# Altium footprint library 贴片厚膜电阻.PcbLib: 14 footprints
Each footprint in its own frame and in the unit in brackets; x right, y up, seen from the top. Pads: shape width x height; smd on the part's side, far side on the other; paste and mask are expansions set on the pad; w line width, h text height; cw(c..) or ccw(c..) is an arc to the next point about the centre after c.
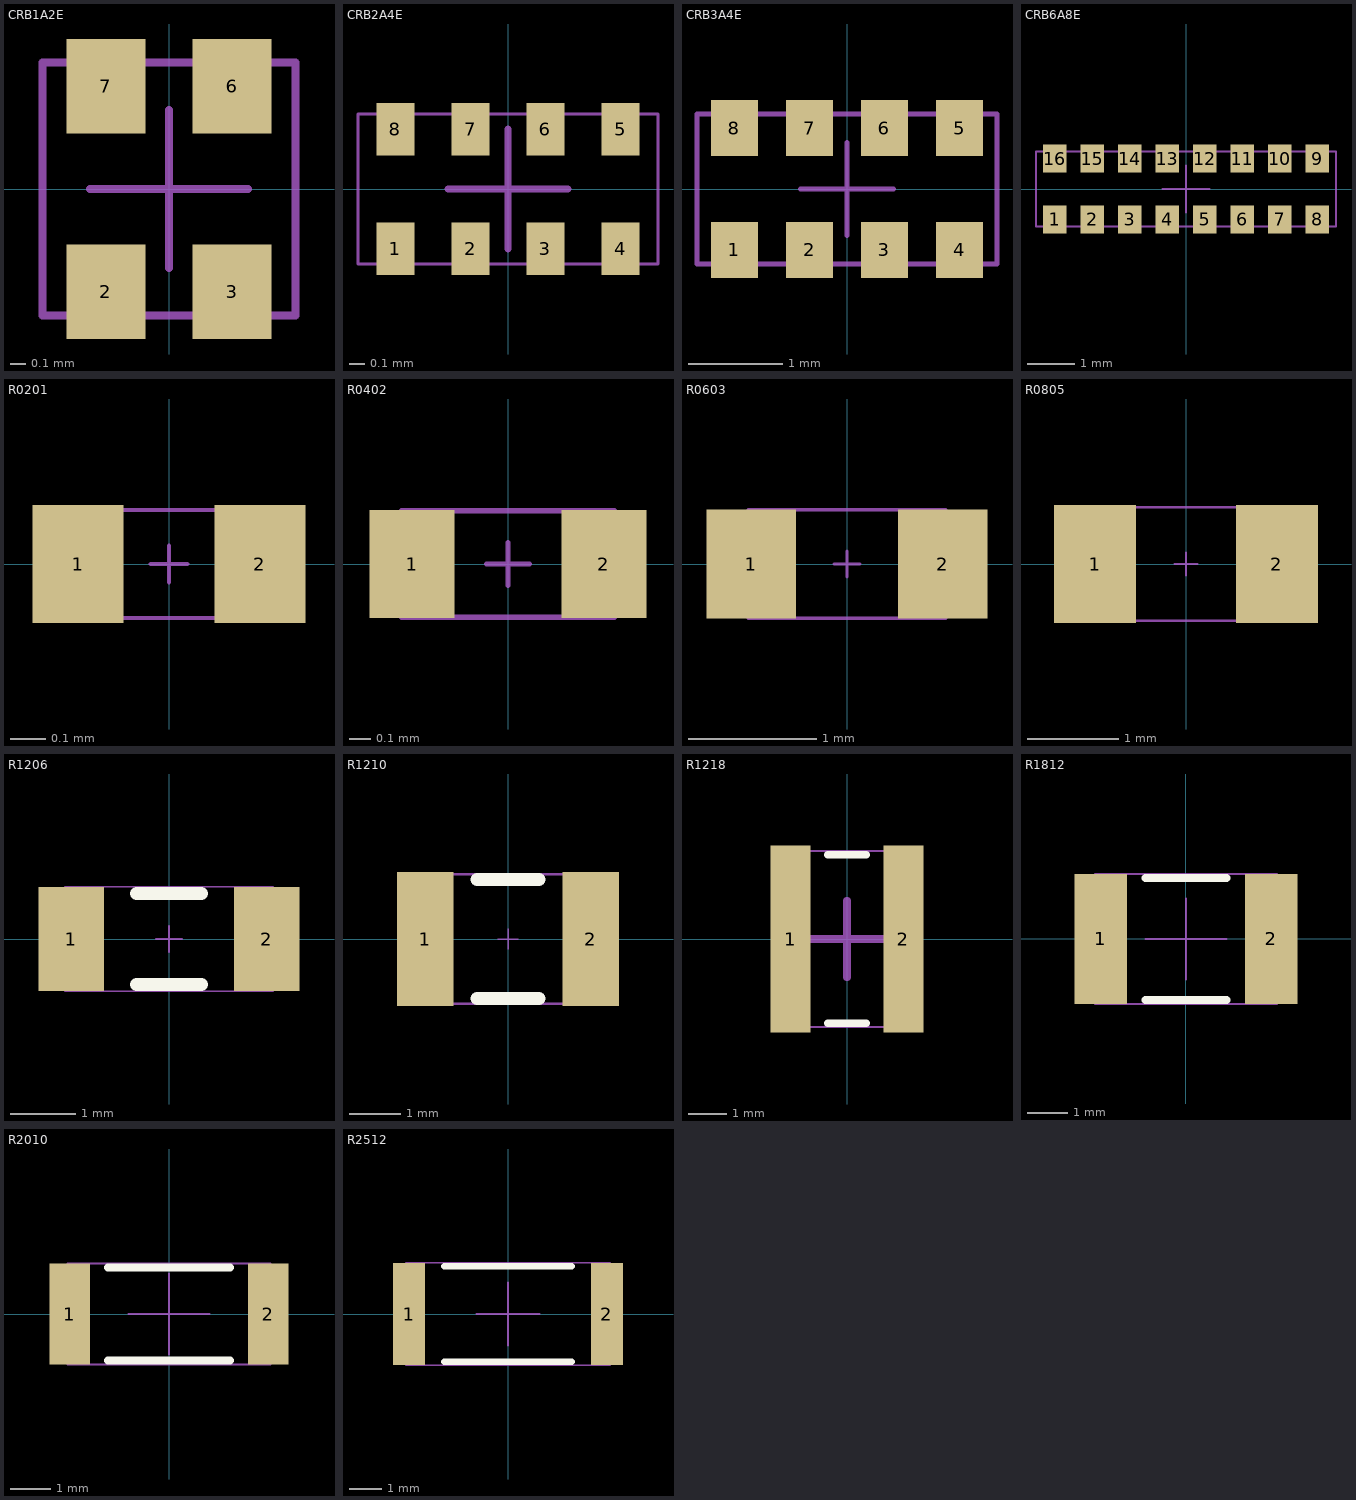
[diagram p0: the footprints below, top view; thin cyan lines are the x and y axes]

## CRB1A2E [mm] "AVX 2位贴片排阻，1.6X1.6X0.6"
height 0.6
pads (4):
  rect 0.5x0.6 smd: 2(-0.4,-0.65) 3(0.4,-0.65) 6(0.4,0.65) 7(-0.4,0.65)
Mechanical 13:
  lines w0.05: -0.8,-0.8 -0.8,0.8 0.8,0.8 0.8,-0.8 -0.8,-0.8
Mechanical 15:
  lines w0.05: -0.5,0 0.5,0 ; 0,-0.5 0,0.5
3D body: height 0.58, standoff -0.02, extent -0.8,-0.8 0.8,0.8

## CRB2A4E [mm] "AVX 4位贴片排阻，2.0x1.0x0.4"
height 0.4
pads (8):
  rect 0.254x0.35 smd: 1(-0.75,-0.4) 2(-0.25,-0.4) 3(0.25,-0.4) 4(0.75,-0.4) 5(0.75,0.4) 6(0.25,0.4) 7(-0.25,0.4) 8(-0.75,0.4)
Mechanical 13:
  lines w0.02: -1,-0.5 -1,0.5 1,0.5 1,-0.5 -1,-0.5
Mechanical 15:
  lines w0.05: -0.4,0 0.4,0 ; 0,-0.4 0,0.4
3D body: height 0.39, standoff -0.01, extent -1,-0.5 1,0.5

## CRB3A4E [mm] "AVX 4位贴片排阻，3.2x1.6x0.6"
height 0.6
pads (8):
  rect 0.5x0.6 smd: 1(-1.2,-0.65) 2(-0.4,-0.65) 3(0.4,-0.65) 4(1.2,-0.65) 5(1.2,0.65) 6(0.4,0.65) 7(-0.4,0.65) 8(-1.2,0.65)
Mechanical 13:
  lines w0.05: -1.6,-0.8 -1.6,0.8 1.6,0.8 1.6,-0.8 -1.6,-0.8
Mechanical 15:
  lines w0.05: -0.5,0 0.5,0 ; 0,-0.5 0,0.5
3D body: height 0.58, standoff -0.02, extent -1.6,-0.8 1.6,0.8

## CRB6A8E [mm] "AVX 8位贴片排阻，6.4x1.6x0.6"
height 0.6
pads (16):
  rect 0.5x0.6 smd: 1(-2.8,-0.65) 2(-2,-0.65) 3(-1.2,-0.65) 4(-0.4,-0.65) 5(0.4,-0.65) 6(1.2,-0.65) 7(2,-0.65) 8(2.8,-0.65) 9(2.8,0.65) 10(2,0.65) 11(1.2,0.65) 12(0.4,0.65) 13(-0.4,0.65) 14(-1.2,0.65) 15(-2,0.65) 16(-2.8,0.65)
Mechanical 13:
  lines w0.05: -3.2,-0.8 -3.2,0.8 3.2,0.8 3.2,-0.8 -3.2,-0.8
Mechanical 15:
  lines w0.05: -0.5,0 0.5,0 ; 0,-0.5 0,0.5
3D body: height 0.58, standoff -0.02, extent -3.2,-0.8 3.2,0.8

## R0201 [mil] "1/20W 15V -55 to +125°C （AVX电阻）"
height 9
pads (2):
  rect 10x13 smd: 1(-10,0) 2(10,0)
Mechanical 13:
  lines w0.39: -11.82,-5.91 11.8,-5.91 11.8,5.91 -11.82,5.91 -11.82,-5.91
Mechanical 15:
  lines w0.3: -6,-6 -6,6 ; 6,-6 6,6 ; -12,-6 12,-6 12,6 -12,6 -12,-6
  lines w0.49: -2,0 0,0 ; 0,-2 0,0 ; 0,2 0,0 ; 2,0 0,0
3D body: height 8.86, standoff -0.2, extent -11.82,-5.91 11.8,5.91

## R0402 [mm] "1/16W 50V -55 to +125°C （AVX电阻）"
height 0.356
pads (2):
  rect 0.4x0.508 smd: 1(-0.45,0) 2(0.45,0)
Mechanical 13:
  lines w0.02: -0.5,-0.25 0.5,-0.25 0.5,0.25 -0.5,0.25 -0.5,-0.25
Mechanical 15:
  lines w0.025: -0.305,-0.25 -0.305,0.25 ; -0.1,0 0.1,0 ; 0,-0.1 0,0.1 ; 0.305,-0.25 0.305,0.25 ; -0.5,-0.25 0.5,-0.25 0.5,0.25 -0.5,0.25 -0.5,-0.25
3D body: height 0.35, standoff 0, extent -0.5,-0.25 0.5,0.25

## R0603 [mm] "1/10W 50V -55 to +125°C （AVX电阻）"
height 0.508
pads (2):
  rect 0.7x0.85 smd: 1(-0.75,0) 2(0.75,0)
Mechanical 13:
  lines w0.02: -0.775,-0.425 -0.775,0.425 0.775,0.425 0.775,-0.425 -0.775,-0.425
Mechanical 15:
  lines w0.025: -0.584,-0.425 -0.584,0.425 ; -0.1,0 0.1,0 ; 0,-0.1 0,0.1 ; 0.559,-0.425 0.559,0.425 ; -0.775,-0.425 -0.775,0.425 0.775,0.425 0.775,-0.425 -0.775,-0.425
3D body: height 0.46, standoff 0, extent -0.775,-0.425 0.775,0.425

## R0805 [mm] "1/8W 100V -55 to +125°C （AVX电阻）"
height 0.559
pads (2):
  rect 0.9x1.3 smd: 1(-1,0) 2(1,0)
Mechanical 13:
  lines w0.02: -1,-0.625 -1,0.625 1,0.625 1,-0.625 -1,-0.625
Mechanical 15:
  lines w0.025: -0.61,-0.625 -0.61,0.625 ; -0.127,0 0.127,0 ; 0,-0.127 0,0.127 ; 0.61,-0.625 0.61,0.625 ; -1,-0.625 1,-0.625 1,0.625 -1,0.625 -1,-0.625
3D body: height 0.46, standoff 0, extent -1,-0.625 1,0.625

## R1206 [mm] "1/4W 200V -55 to +125°C （AVX电阻）"
height 0.559
pads (2):
  rect 1x1.6 smd: 1(-1.5,0) 2(1.5,0)
Top Overlay:
  lines w0.2: -0.5,-0.7 0.5,-0.7 ; -0.5,0.7 0.5,0.7
Mechanical 13:
  lines w0.02: -1.6,-0.8 1.6,-0.8 1.6,0.8 -1.6,0.8 -1.6,-0.8
Mechanical 15:
  lines w0.025: -1.143,-0.8 -1.143,0.8 ; -0.2,0 0.2,0 ; 0,-0.2 0,0.2 ; 1.143,-0.8 1.143,0.8 ; -1.6,-0.8 -1.6,0.8 1.6,0.8 1.6,-0.8 -1.6,-0.8
3D body: height 0.56, standoff 0, extent -1.6,-0.8 1.6,0.8

## R1210 [mm] "1/2W 200V -55 to +125°C （Vishay电阻）"
height 2.5
pads (2):
  rect 1.1x2.6 smd: 1(-1.6,0) 2(1.6,0)
Top Overlay:
  lines w0.254: -0.6,-1.15 0.6,-1.15 ; -0.6,1.15 0.6,1.15
Mechanical 13:
  lines w0.05: -1.6,-1.25 -1.6,1.25 1.6,1.25 1.6,-1.25 -1.6,-1.25
Mechanical 15:
  lines w0.025: -0.2,0 0.2,0 ; 0,-0.2 0,0.2
  lines w0.05: -1.2,-1.25 -1.2,1.25 ; 1.2,-1.25 1.2,1.25 ; -1.6,-1.25 -1.6,1.25 1.6,1.25 1.6,-1.25 -1.6,-1.25
3D body: height 0.56, standoff 0, extent -1.6,-1.25 1.6,1.25

## R1218 [mm] "1W 200V -55 to +125°C （Vishay电阻）"
height 0.5
pads (2):
  rect 1.05x4.9 smd: 1(-1.475,0) 2(1.475,0)
Top Overlay:
  lines w0.2: -0.5,-2.2 0.5,-2.2 ; -0.5,2.2 0.5,2.2
Mechanical 13:
  lines w0.05: -1.6,-2.3 -1.6,2.3 1.6,2.3 1.6,-2.3 -1.6,-2.3
Mechanical 15:
  lines w0.2: -1,0 1,0 ; 0,-1 0,1
3D body: height 0.56, standoff 0, extent -1.6,-2.3 1.6,2.3

## R1812 [mm] "0.5W 200V -55 to +125°C （风华电阻）"
height 0.6
pads (2):
  rect 1.3x3.2 smd: 1(-2.1,0) 2(2.1,0)
Top Overlay:
  lines w0.2: -1,-1.5 1,-1.5 ; -1,1.5 1,1.5
Mechanical 13:
  lines w0.05: -2.25,-1.6 -2.25,1.6 2.25,1.6 2.25,-1.6 -2.25,-1.6
Mechanical 15:
  lines w0.05: -1,0 1,0 ; 0,-1 0,1
3D body: height 0.55, standoff 0, extent -2.25,-1.6 2.25,1.6

## R2010 [mm] "0.75W 400V -55 to +125°C （Vishay电阻）"
height 0.6
pads (2):
  rect 1x2.5 smd: 1(-2.45,0) 2(2.45,0)
Top Overlay:
  lines w0.2: -1.5,-1.15 1.5,-1.15 ; -1.5,1.15 1.5,1.15
Mechanical 13:
  lines w0.05: -2.5,-1.25 -2.5,1.25 2.5,1.25 2.5,-1.25 -2.5,-1.25
Mechanical 15:
  lines w0.05: -1,0 1,0 ; 0,-1 0,1
3D body: height 0.55, standoff 0, extent -2.5,-1.25 2.5,1.25

## R2512 [mm] "1W 500V -55 to +125°C （Vishay电阻）"
height 0.6
pads (2):
  rect 1x3.2 smd: 1(-3.1,0) 2(3.1,0)
Top Overlay:
  lines w0.2: -2,-1.5 2,-1.5 ; -2,1.5 2,1.5
Mechanical 13:
  lines w0.05: -3.2,-1.6 -3.2,1.6 3.2,1.6 3.2,-1.6 -3.2,-1.6
Mechanical 15:
  lines w0.05: -1,0 1,0 ; 0,-1 0,1
3D body: height 0.55, standoff 0, extent -3.2,-1.6 3.2,1.6